# Altium footprint library PCB - CONNECTOR - WURTH - WURTH 691322110007.PcbLib: 1 footprints
Each footprint in its own frame and in the unit in brackets; x right, y up, seen from the top. Pads: shape width x height; smd on the part's side, far side on the other; paste and mask are expansions set on the pad; w line width, h text height; cw(c..) or ccw(c..) is an arc to the next point about the centre after c.
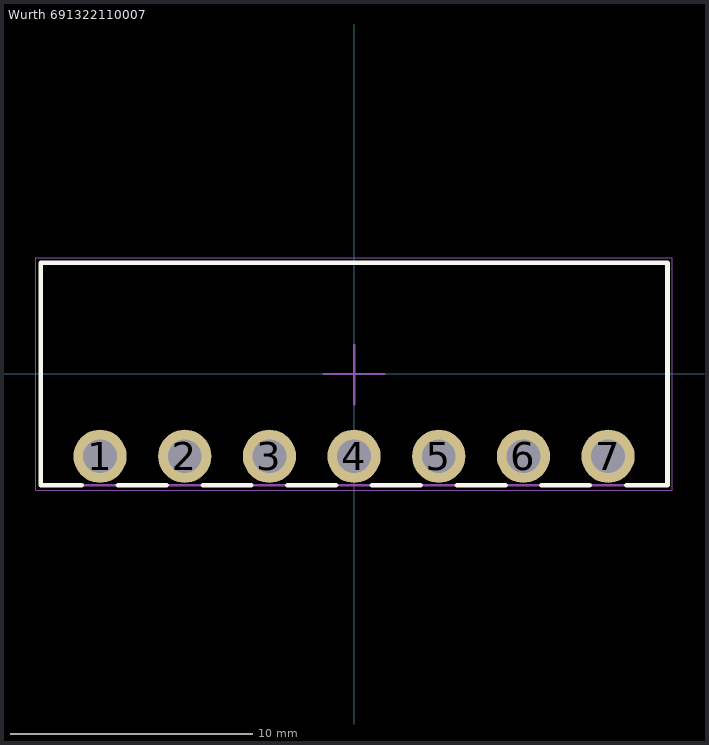
[diagram p0: the footprint, top view; thin cyan lines are the x and y axes]

## Wurth 691322110007 [mm] "7 Position Terminal Block Header, Male Pins, 3.5mm Pitch,25.9mmx9.2mm Body, 90°, Right Angle, THT"
height 7.4
pads (7):
  round 2.2 hole 1.4: 1(-10.5,-3.4) 2(-7,-3.4) 3(-3.5,-3.4) 4(0,-3.4) 5(3.5,-3.4) 6(7,-3.4) 7(10.5,-3.4)
Top Overlay:
  lines w0.2: -11.255,-4.6 -12.95,-4.6 -12.95,4.6 12.95,4.6 12.95,-4.6 11.255,-4.6 ; -9.755,-4.6 -7.755,-4.6 ; -6.25,-4.6 -4.25,-4.6 ; -2.745,-4.6 -0.745,-4.6 ; 0.745,-4.6 2.745,-4.6 ; 4.255,-4.6 6.255,-4.6 ; 7.745,-4.6 9.745,-4.6
Mechanical 13:
  lines w0.1: -12.95,-4.6 12.95,-4.6 12.95,4.6 -12.95,4.6 -12.95,-4.6
Mechanical 15 (Mech15):
  lines w0.05: -13.155,-4.8 -13.155,4.8 13.15,4.8 13.15,-4.8 -13.155,-4.8
  lines w0.1: -1.25,0 0,0 ; 0,-1.25 0,0 ; 0,1.2 0,0 ; 1.25,0 0,0
3D body "Würth Elektronik - 691322110007 v2.step": height 7.2, standoff -3.5, extent -12.95,-4.6 12.95,4.6